# Altium footprint library STM32F746_AppBoard.PcbLib: 38 footprints (part 2 of 3)
Each footprint in its own frame and in the unit in brackets; x right, y up, seen from the top. Pads: shape width x height; smd on the part's side, far side on the other; paste and mask are expansions set on the pad; w line width, h text height; cw(c..) or ccw(c..) is an arc to the next point about the centre after c.
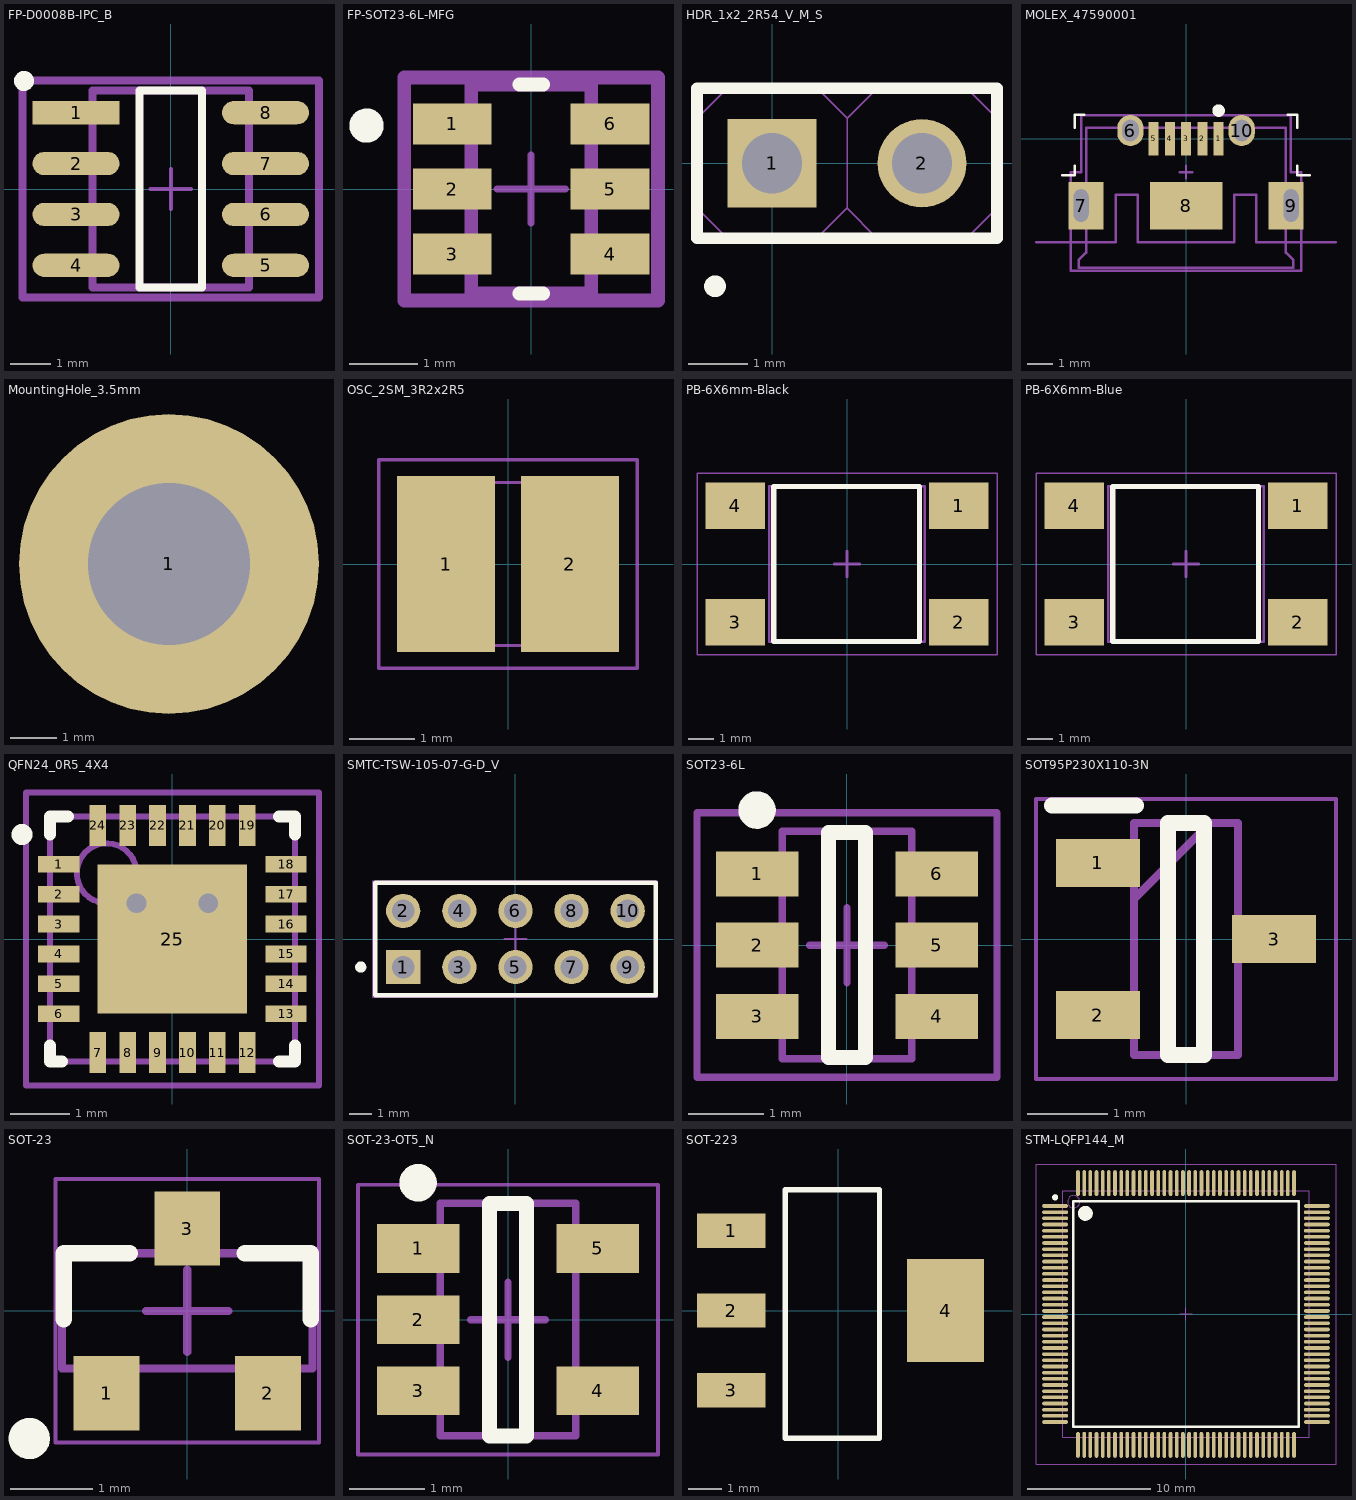
[diagram p1: the footprints below, top view; thin cyan lines are the x and y axes]

## FP-D0008B-IPC_B [mm]
pads (8):
  rect 2.169x0.582 smd paste+0 mask+0: 1(-2.364,1.905)
  rrect100% 2.169x0.582 smd paste+0 mask+0: 2(-2.364,0.635) 3(-2.364,-0.635) 4(-2.364,-1.905) 5(2.364,-1.905) 6(2.364,-0.635) 7(2.364,0.635) 8(2.364,1.905)
Top Overlay:
  circle w0.25: c-3.661,2.695 r0.125
  lines w0.2: -0.779,-2.452 -0.779,2.452 0.779,2.452 0.779,-2.452 -0.779,-2.452
Top 3D Body:
  lines w0.2: -1.947,-2.452 -1.947,2.452 1.947,2.452 1.947,-2.452 -1.947,-2.452
Top Courtyard:
  lines w0.2: -3.698,-2.702 -3.698,2.702 3.698,2.702 3.698,-2.702 -3.698,-2.702
Top Assembly:
  lines w0.2: -3.698,-2.702 -3.698,2.702 3.698,2.702 3.698,-2.702 -3.698,-2.702
  text ".Designator" at 0.15,0.417 h0.8
Top Component Center:
  lines w0.1: -0.5,0 0.5,0 ; 0,-0.5 0,0.5

## FP-SOT23-6L-MFG [mm]
pads (6):
  rect 1.15x0.6 smd paste+0 mask+0: 1(-1.15,0.95) 2(-1.15,0) 3(-1.15,-0.95) 4(1.15,-0.95) 5(1.15,0) 6(1.15,0.95)
Top Overlay:
  circle w0.25: c-2.4,0.925 r0.125
  lines w0.2: -0.175,-1.525 0.175,-1.525 ; -0.175,1.525 0.175,1.525
Top 3D Body:
  lines w0.2: -0.875,-1.525 -0.875,1.525 0.875,1.525 0.875,-1.525 -0.875,-1.525
Top Courtyard:
  lines w0.2: -1.85,-1.625 -1.85,1.625 1.85,1.625 1.85,-1.625 -1.85,-1.625
Top Assembly:
  lines w0.2: -1.85,-1.625 -1.85,1.625 1.85,1.625 1.85,-1.625 -1.85,-1.625
  text ".Designator" at 0.15,0.417 h0.8
Top Component Center:
  lines w0.1: -0.5,0 0.5,0 ; 0,-0.5 0,0.5
3D body "Diode_STMicroelectronics_ESDA6V1BC6_eec.STEP": height 0.25, standoff 0, extent -1.85,-1.625 1.85,1.625

## HDR_1x2_2R54_V_M_S [mm] "Male Header, Pitch 2.54mm, 4x1 Position, Mated Height 6mm, Tail Length 3mm"
height 6
pads (2):
  rect 1.5x1.5 hole 1.02: 1(0,0)
  round 1.5 hole 1.02: 2(2.54,0)
Top Overlay:
  circle w0.25: c-0.965,-2.083 r0.059
  lines w0.2: -1.27,-1.27 -1.27,1.27 3.81,1.27 3.81,-1.27 -1.27,-1.27
Mechanical 13:
  lines w0.025: 3.81,-0.762 3.302,-1.27 ; 3.81,0.762 3.302,1.27 1.778,1.27 1.27,0.762 ; -1.27,-0.762 -1.27,0.762 ; -1.27,-0.762 -1.27,0.762 ; -1.27,-0.762 -0.762,-1.27 ; -1.27,0.762 -0.762,1.27 0.762,1.27 1.27,0.762 ; -0.762,-1.27 0.762,-1.27 ; -0.762,-1.27 0.762,-1.27 ; 0.762,-1.27 1.27,-0.762 ; 1.27,-0.762 1.27,0.762 ; 1.27,-0.762 1.27,0.762 ; 1.27,-0.762 1.27,0.762 ; 1.27,-0.762 1.27,0.762 ; 1.27,-0.762 1.778,-1.27 ; 1.778,-1.27 3.302,-1.27 ; 1.778,-1.27 3.302,-1.27
3D body: height 2.54, standoff 0, extent -1.27,-1.27 1.27,1.27
3D body: height 9, standoff -3, extent -0.35,-0.349 0.347,0.349
3D body: height 2.54, standoff 0, extent 1.27,-1.27 3.81,1.27
3D body: height 9, standoff -3, extent 2.19,-0.349 2.887,0.349

## MOLEX_47590001 [mm] "USB Micro-B Connector"
height 2.667
pads (10):
  rect 0.4x1.35 smd: 1(1.3,0) 2(0.65,0) 3(0,0) 4(-0.65,0) 5(-1.3,0)
  oval 1.05x1.25 hole 0.65 slot 0.85 at 90 deg: 6(-2.225,0.325) 10(2.225,0.325)
  rect 1.4x1.9 hole 0.6 slot 1.3 at 90 deg copper offset 0.2,0: 7(-4.2,-2.675)
  rect 2.9x1.9 smd: 8(0,-2.675)
  rect 1.4x1.9 hole 0.6 slot 1.3 at 90 deg copper offset -0.2,0: 9(4.2,-2.675)
Top Overlay:
  circle w0.25: c1.304,1.122 r0.125
  lines w0.1: -4.953,-1.465 -4.445,-1.465 -4.445,-1.084 ; -4.445,0.44 -4.445,0.948 -4.064,0.948 ; 4.064,0.948 4.445,0.948 4.445,0.44 ; 4.445,-1.084 4.445,-1.465 4.953,-1.465
Mechanical 1:
  lines w0.1: -6,-4.137 -2.82,-4.137 -2.82,-2.238 -1.92,-2.238 -1.92,-4.137 0,-4.137 1.92,-4.137 1.92,-2.238 2.82,-2.238 2.82,-4.137 6,-4.137
  text "Board edge" at 5.588,-4.005 h0.8
Mechanical 13:
  lines w0.1: -4,0.442 -4,-2.058 -4.572,-2.058 -4.572,-3.116 -4,-3.116 -4,-4.558 -4.3,-4.858 -4.3,-5.158 4.3,-5.158 4.3,-4.858 4,-4.558 4,-3.116 4.572,-3.116 4.572,-2.058 4,-2.058 4,0.442 ; -4,0.442 4,0.442 ; -4,0.442 4,0.442
Mechanical 15:
  lines w0.1: -4.2,0.937 4.2,0.937 ; -4.2,0.94 -4.2,-1.338 -4.6,-1.338 -4.6,-4.137 -4.6,-5.275 4.6,-5.275 4.6,-4.137 4.6,-1.338 4.2,-1.338 4.2,0.94 ; -0.254,-1.338 0.254,-1.338 ; 0,-1.592 0,-1.084
3D body "ZX62R-B-5P.stp": height 2.71, standoff -0.23, extent -4.4,-5.291 4.4,0.44

## MountingHole_3.5mm [mm]
pads (1):
  round 6.5 hole 3.5: 1(-72.593,-67.914)

## OSC_2SM_3R2x2R5 [mm] "Crystal 8M Hz 3.2x2.5mm SMD"
pads (2):
  rect 1.5x2.7 smd: 1(-0.95,0) 2(0.95,0)
Mechanical 13:
  lines w0.051: -1.6,-1.25 -1.6,1.25 1.6,1.25 1.6,-1.25 -1.6,-1.25
Mechanical 15:
  lines w0.051: -1.981,-1.6 1.981,-1.6 1.981,1.6 -1.981,1.6 -1.981,-1.6
3D body: height 1, standoff 0, extent -1.6,-1.25 1.6,1.25

## PB-6X6mm-Black [mm] "Surface Mounting Type Tact Switch, 4-Leads, Body 6x6mm, Height 4.5mm Black"
height 4.5
pads (4):
  rect 2.3x1.8 smd: 1(4.325,2.25) 2(4.325,-2.25) 3(-4.325,-2.25) 4(-4.325,2.25)
Top Overlay:
  lines w0.2: -2.831,-3 -2.831,3 2.808,3 2.808,-3 -2.831,-3
Mechanical 13:
  lines w0.1: -3,-3 3,-3 3,3 -3,3 -3,-3
Mechanical 15:
  lines w0.05: -5.8,-3.5 5.8,-3.5 5.8,3.5 -5.8,3.5 -5.8,-3.5
  lines w0.1: -0.5,0 0.5,0 ; 0,-0.5 0,0.5
3D body: height 3.5, standoff 0, extent -3,-3 3,3
3D body: height 10.5, standoff 3.5, extent -1.736,-1.746 1.75,1.747
3D body: height 3.9, standoff 2.3, extent -2.951,1.363 -1.359,2.956
3D body: height 3.9, standoff 2.3, extent 1.363,1.359 2.956,2.95
3D body: height 3.9, standoff 2.3, extent -2.956,-2.951 -1.362,-1.359
3D body: height 3.9, standoff 2.3, extent 1.359,-2.956 2.95,-1.362

## PB-6X6mm-Blue [mm] "Surface Mounting Type Tact Switch, 4-Leads, Body 6x6mm, Height 4.5mm,Blue"
height 4.5
pads (4):
  rect 2.3x1.8 smd: 1(4.325,2.25) 2(4.325,-2.25) 3(-4.325,-2.25) 4(-4.325,2.25)
Top Overlay:
  lines w0.2: -2.831,-3 2.808,-3 2.808,3 -2.831,3 -2.831,-3
Mechanical 13:
  lines w0.1: -3,-3 -3,3 3,3 3,-3 -3,-3
Mechanical 15:
  lines w0.05: -5.8,-3.5 5.8,-3.5 5.8,3.5 -5.8,3.5 -5.8,-3.5
  lines w0.1: -0.5,0 0.5,0 ; 0,-0.5 0,0.5
3D body: height 3.9, standoff 2.3, extent 1.359,-2.956 2.95,-1.362
3D body: height 3.9, standoff 2.3, extent -2.956,-2.951 -1.362,-1.359
3D body: height 3.9, standoff 2.3, extent 1.363,1.359 2.956,2.95
3D body: height 3.9, standoff 2.3, extent -2.951,1.363 -1.359,2.956
3D body: height 10.5, standoff 3.5, extent -1.736,-1.746 1.75,1.747
3D body: height 3.5, standoff 0, extent -3,-3 3,3

## QFN24_0R5_4X4 [mm] "SQFN 24 Pins, Pitch 0.5mm, 4mmx4mm"
height 1
pads (25):
  rect 0.69x0.28 smd: 1(-1.9,1.25) 2(-1.9,0.75) 3(-1.9,0.25) 4(-1.9,-0.25) 5(-1.9,-0.75) 6(-1.9,-1.25) 13(1.9,-1.25) 14(1.9,-0.75) 15(1.9,-0.25) 16(1.9,0.25) 17(1.9,0.75) 18(1.9,1.25)
  rect 0.28x0.69 smd: 7(-1.25,-1.9) 8(-0.75,-1.9) 9(-0.25,-1.9) 10(0.25,-1.9) 11(0.75,-1.9) 12(1.25,-1.9) 19(1.25,1.9) 20(0.75,1.9) 21(0.25,1.9) 22(-0.25,1.9) 23(-0.75,1.9) 24(-1.25,1.9)
  rect 2.5x2.5 smd: 25(0,0)
via 0.6,0.6 diameter 0.66 hole 0.33
via -0.6,0.6 diameter 0.66 hole 0.33
Top Overlay:
  circle w0.25: c-2.516,1.747 r0.051
  lines w0.2: -2.05,-1.778 -2.05,-2.05 -1.851,-2.05 ; -2.05,1.751 -2.05,2.05 -1.751,2.05 ; 1.784,-2.05 2.05,-2.05 2.05,-1.778 ; 1.784,2.05 2.05,2.05 2.05,1.751
Mechanical 13:
  circle w0.1: c-1.1,1.1 r0.5
  lines w0.1: -2.05,-2.05 -2.05,2.05 2.05,2.05 2.05,-2.05 -2.05,-2.05
Mechanical 15:
  lines w0.1: -0.5,0 0.5,0 ; 0,-0.5 0,0.5 ; -2.45,-2.45 -2.45,2.45 2.45,2.45 2.45,-2.45 -2.45,-2.45
3D body: height 1, standoff 0.02, extent -2.05,-2.05 2.05,2.05

## SMTC-TSW-105-07-G-D_V [mm] "THD, 10-Leads, Body 12.7x5.08mm, Pitch 2.54mm"
height 8.58
pads (10):
  rect 1.55x1.55 hole 1.02: 1(-5.08,-1.27)
  round 1.55 hole 1.02: 2(-5.08,1.27) 3(-2.54,-1.27) 4(-2.54,1.27) 5(0,-1.27) 6(0,1.27) 7(2.54,-1.27) 8(2.54,1.27) 9(5.08,-1.27) 10(5.08,1.27)
Top Overlay:
  circle w0.25: c-7,-1.27 r0.125
  lines w0.2: -6.35,-2.54 -6.35,2.54 6.35,2.54 6.35,-2.54 -6.35,-2.54
Mechanical 13:
  lines w0.1: -6.35,-2.54 -6.35,2.54 6.35,2.54 6.35,-2.54 -6.35,-2.54
Mechanical 15:
  lines w0.05: -6.45,-2.64 -6.45,2.64 6.45,2.64 6.45,-2.64 -6.45,-2.64
  lines w0.1: -0.5,0 0.5,0 ; 0,-0.5 0,0.5
3D body "TSW-105-07-G-D.stp": height 8.38, standoff -2.54, extent -6.35,-2.54 6.35,2.54

## SOT23-6L [mm]
height 1.25
pads (6):
  rect 1.1x0.6 smd: 1(-1.2,0.95) 2(-1.2,0) 3(-1.2,-0.95) 4(1.2,-0.95) 5(1.2,0) 6(1.2,0.95)
Top Overlay:
  circle w0.25: c-1.2,1.8 r0.125
  lines w0.2: -0.25,-1.5 -0.25,1.5 0.25,1.5 0.25,-1.5 -0.25,-1.5
Mechanical 13:
  lines w0.1: -0.865,-1.515 0.865,-1.515 0.865,1.515 -0.865,1.515 -0.865,-1.515
Mechanical 15:
  lines w0.1: -0.5,0 0.5,0 ; 0,-0.5 0,0.5 ; -2,-1.763 2,-1.763 2,1.763 -2,1.763 -2,-1.763
3D body: height 1.25, standoff 0.05, extent -0.865,-1.515 0.865,1.515

## SOT95P230X110-3N [mm]
pads (3):
  rect 1.05x0.6 smd: 1(-1.1,0.95) 2(-1.1,-0.95) 3(1.1,0)
Top Overlay:
  lines w0.2: -1.674,1.67 -0.624,1.67 ; -0.225,-1.45 -0.225,1.45 0.225,1.45 0.225,-1.45 -0.225,-1.45
Mechanical 15:
  lines w0.1: -0.65,0.5 0.3,1.45 ; -0.65,-1.45 -0.65,1.45 0.65,1.45 0.65,-1.45 -0.65,-1.45
Bottom Assembly:
  lines w0.05: -1.875,-1.75 -1.875,1.75 1.875,1.75 1.875,-1.75 -1.875,-1.75

## SOT-23 [mm]
height 1.1
pads (3):
  rect 0.8x0.9 smd: 1(-0.98,-1) 2(0.98,-1) 3(0,1)
Top Overlay:
  circle w0.25: c-1.919,-1.551 r0.125
  lines w0.2: -1.5,-0.1 -1.5,0.7 -0.7,0.7 ; 0.7,0.7 1.5,0.7 1.5,-0.1
Mechanical 13:
  lines w0.1: -1.52,-0.7 -1.52,0.7 1.52,0.7 1.52,-0.7 -1.52,-0.7
Mechanical 15:
  lines w0.05: -1.6,-1.6 -1.6,1.6 1.6,1.6 1.6,-1.6 -1.6,-1.6
  lines w0.1: -0.5,0 0.5,0 ; 0,-0.5 0,0.5
3D body: height 1.11, standoff 0.01, extent -1.52,-0.7 1.52,0.7

## SOT-23-OT5_N [mm] "SOT23, 5-Leads, Body 2.9x1.7mm, Pitch 0.95mm, Lead Span 2.8mm, IPC Medium Density"
height 1.45
pads (5):
  rect 1.1x0.65 smd: 1(-1.2,0.95) 2(-1.2,0) 3(-1.2,-0.95) 4(1.2,-0.95) 5(1.2,0.95)
Top Overlay:
  circle w0.25: c-1.2,1.825 r0.125
  lines w0.2: -0.25,-1.55 -0.25,1.55 0.25,1.55 0.25,-1.55 -0.25,-1.55
Mechanical 13:
  lines w0.1: -0.9,-1.55 0.9,-1.55 0.9,1.55 -0.9,1.55 -0.9,-1.55
Mechanical 15:
  lines w0.05: -2,-1.8 2,-1.8 2,1.8 -2,1.8 -2,-1.8
  lines w0.1: -0.5,0 0.5,0 ; 0,-0.5 0,0.5
3D body: height 1.45, standoff 0, extent -0.9,-1.55 0.9,1.55

## SOT-223 [mil] "Adjustable and fixed low drop positive voltage regulator"
height 70.87
pads (4):
  rect 80x40 smd: 1(-125,93) 2(-125,0) 3(-125,-93)
  rect 90x120 smd: 4(125,0)
Top Overlay:
  lines w6: -62,-149 48,-149 48,141 -62,141 -62,-149
3D body: height 70.87, standoff 7.87, extent -83.66,-131.89 62.01,131.89

## STM-LQFP144_M [mm] "Thin QFP, 144-Leads, Body 20x20mm, Pitch 0.5mm, IPC Low Density"
height 1.6
pads (144):
  oval 2.1x0.3 smd: 1(-10.6,8.75) 2(-10.6,8.25) 3(-10.6,7.75) 4(-10.6,7.25) 5(-10.6,6.75) 6(-10.6,6.25) 7(-10.6,5.75) 8(-10.6,5.25) 9(-10.6,4.75) 10(-10.6,4.25) 11(-10.6,3.75) 12(-10.6,3.25) 13(-10.6,2.75) 14(-10.6,2.25) 15(-10.6,1.75) 16(-10.6,1.25) 17(-10.6,0.75) 18(-10.6,0.25) 19(-10.6,-0.25) 20(-10.6,-0.75) 21(-10.6,-1.25) 22(-10.6,-1.75) 23(-10.6,-2.25) 24(-10.6,-2.75) 25(-10.6,-3.25) 26(-10.6,-3.75) 27(-10.6,-4.25) 28(-10.6,-4.75) 29(-10.6,-5.25) 30(-10.6,-5.75) 31(-10.6,-6.25) 32(-10.6,-6.75) 33(-10.6,-7.25) 34(-10.6,-7.75) 35(-10.6,-8.25) 36(-10.6,-8.75) 73(10.6,-8.75) 74(10.6,-8.25) 75(10.6,-7.75) 76(10.6,-7.25) 77(10.6,-6.75) 78(10.6,-6.25) 79(10.6,-5.75) 80(10.6,-5.25) 81(10.6,-4.75) 82(10.6,-4.25) 83(10.6,-3.75) 84(10.6,-3.25) 85(10.6,-2.75) 86(10.6,-2.25) 87(10.6,-1.75) 88(10.6,-1.25) 89(10.6,-0.75) 90(10.6,-0.25) 91(10.6,0.25) 92(10.6,0.75) 93(10.6,1.25) 94(10.6,1.75) 95(10.6,2.25) 96(10.6,2.75) 97(10.6,3.25) 98(10.6,3.75) 99(10.6,4.25) 100(10.6,4.75) 101(10.6,5.25) 102(10.6,5.75) 103(10.6,6.25) 104(10.6,6.75) 105(10.6,7.25) 106(10.6,7.75) 107(10.6,8.25) 108(10.6,8.75)
  oval 0.3x2.1 smd: 37(-8.75,-10.6) 38(-8.25,-10.6) 39(-7.75,-10.6) 40(-7.25,-10.6) 41(-6.75,-10.6) 42(-6.25,-10.6) 43(-5.75,-10.6) 44(-5.25,-10.6) 45(-4.75,-10.6) 46(-4.25,-10.6) 47(-3.75,-10.6) 48(-3.25,-10.6) 49(-2.75,-10.6) 50(-2.25,-10.6) 51(-1.75,-10.6) 52(-1.25,-10.6) 53(-0.75,-10.6) 54(-0.25,-10.6) 55(0.25,-10.6) 56(0.75,-10.6) 57(1.25,-10.6) 58(1.75,-10.6) 59(2.25,-10.6) 60(2.75,-10.6) 61(3.25,-10.6) 62(3.75,-10.6) 63(4.25,-10.6) 64(4.75,-10.6) 65(5.25,-10.6) 66(5.75,-10.6) 67(6.25,-10.6) 68(6.75,-10.6) 69(7.25,-10.6) 70(7.75,-10.6) 71(8.25,-10.6) 72(8.75,-10.6) 109(8.75,10.6) 110(8.25,10.6) 111(7.75,10.6) 112(7.25,10.6) 113(6.75,10.6) 114(6.25,10.6) 115(5.75,10.6) 116(5.25,10.6) 117(4.75,10.6) 118(4.25,10.6) 119(3.75,10.6) 120(3.25,10.6) 121(2.75,10.6) 122(2.25,10.6) 123(1.75,10.6) 124(1.25,10.6) 125(0.75,10.6) 126(0.25,10.6) 127(-0.25,10.6) 128(-0.75,10.6) 129(-1.25,10.6) 130(-1.75,10.6) 131(-2.25,10.6) 132(-2.75,10.6) 133(-3.25,10.6) 134(-3.75,10.6) 135(-4.25,10.6) 136(-4.75,10.6) 137(-5.25,10.6) 138(-5.75,10.6) 139(-6.25,10.6) 140(-6.75,10.6) 141(-7.25,10.6) 142(-7.75,10.6) 143(-8.25,10.6) 144(-8.75,10.6)
Top Overlay:
  circle w0.25: c-10.6,9.45 r0.125
  circle w0.6: c-8.15,8.15 r0.3
  lines w0.2: -9.15,-9.15 -9.15,9.15 9.15,9.15 9.15,-9.15 -9.15,-9.15
Mechanical 13:
  circle w0.1: c-9.1,9.1 r0.5
  lines w0.1: -10,-10 -10,10 10,10 10,-10 -10,-10
Mechanical 15:
  lines w0.05: -12.15,-12.15 -12.15,12.15 12.15,12.15 12.15,-12.15 -12.15,-12.15
  lines w0.1: -0.5,0 0.5,0 ; 0,-0.5 0,0.5
3D body: height 1.6, standoff 0.05, extent -10,-10 10,10